# EAGLE library part JST-SH-12 (library rgb_cube)
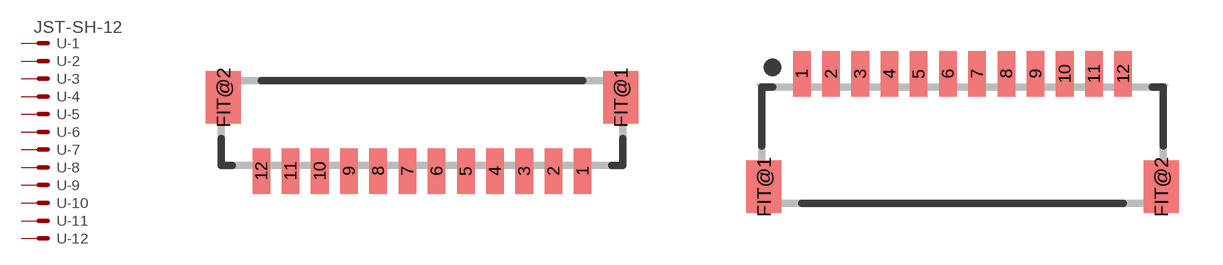
[diagram p55: symbol with the pads of BM12B-SRSS-TB; footprints BM12B-SRSS-TB, SM12B-SRSS-TB]

Designator prefix -; gates -1=MV -2=M -3=M -4=M -5=M -6=M -7=M -8=M -9=M -10=M -11=M -12=M

## JST-SH-12BM  [BM12B-SRSS-TB]
1  -1:S  pas
2  -2:S  pas
3  -3:S  pas
4  -4:S  pas
5  -7:S  pas
6  -5:S  pas
7  -6:S  pas
8  -8:S  pas
9  -9:S  pas
10  -10:S  pas
11  -11:S  pas
12  -12:S  pas

## JST-SH-12  [SM12B-SRSS-TB]
1  -1:S  pas
2  -2:S  pas
3  -3:S  pas
4  -4:S  pas
5  -5:S  pas
6  -6:S  pas
7  -7:S  pas
8  -8:S  pas
9  -9:S  pas
10  -10:S  pas
11  -11:S  pas
12  -12:S  pas

## Footprint BM12B-SRSS-TB (pad centres in mm)
smd 0.6 x 1.55: 1 5.5,-1.625; 2 4.5,-1.625; 3 3.5,-1.625; 4 2.5,-1.625; 5 1.5,-1.625; 6 0.5,-1.625; 7 -0.5,-1.625; 8 -1.5,-1.625; 9 -2.5,-1.625; 10 -3.5,-1.625; 11 -4.5,-1.625; 12 -5.5,-1.625
smd 1.2 x 1.8: FIT@1 6.8,0.9; FIT@2 -6.8,0.9

## Footprint SM12B-SRSS-TB (pad centres in mm)
smd 0.6 x 1.55: 1 -5.5,2.975; 2 -4.5,2.975; 3 -3.5,2.975; 4 -2.5,2.975; 5 -1.5,2.975; 6 -0.5,2.975; 7 0.5,2.975; 8 1.5,2.975; 9 2.5,2.975; 10 3.5,2.975; 11 4.5,2.975; 12 5.5,2.975
smd 1.2 x 1.8: FIT@1 -6.8,-0.9; FIT@2 6.8,-0.9